# EAGLE library part AS3930 (library chips)
Single Channel Low Frequency Wakeup Receiver
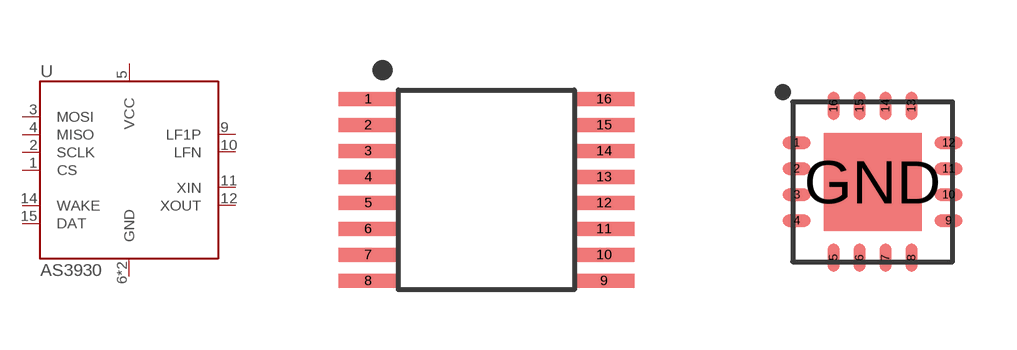
[diagram p33: symbol with the pads of TSSOP-16/5MM; footprints TSSOP-16/5MM, QFN-16-4MM]

Designator prefix U

## AS3930-BTST  [TSSOP-16/5MM]
1  CS
2  SCLK
3  MOSI
4  MISO
5  VCC
6  GND
9  LF1P
10  LFN
11  XIN
12  XOUT
13  GND
14  WAKE
15  DAT

## AS3930-BQFT (DIGIKEY: AS3930-BQFTCT-ND)  [QFN-16-4MM]
3  LF1P
4  LFN
5  XIN
6  XOUT
7  GND
8  WAKE
9  DAT
11  CS
12  SCLK
13  MOSI
14  MISO
15  VCC
16  GND
GND  GND

## Footprint TSSOP-16/5MM (pad centres in mm)
smd 1.5 x 0.35: 1 -2.95,2.275; 2 -2.95,1.625; 3 -2.95,0.975; 4 -2.95,0.325; 5 -2.95,-0.325; 6 -2.95,-0.975; 7 -2.95,-1.625; 8 -2.95,-2.275; 9 2.95,-2.275; 10 2.95,-1.625; 11 2.95,-0.975; 12 2.95,-0.325; 13 2.95,0.325; 14 2.95,0.975; 15 2.95,1.625; 16 2.95,2.275

## Footprint QFN-16-4MM (pad centres in mm)
smd 0.7 x 0.3: 1 -1.9,0.975; 2 -1.9,0.325; 3 -1.9,-0.325; 4 -1.9,-0.975; 9 1.9,-0.975; 10 1.9,-0.325; 11 1.9,0.325; 12 1.9,0.975
smd 0.3 x 0.7: 5 -0.975,-1.9; 6 -0.325,-1.9; 7 0.325,-1.9; 8 0.975,-1.9; 13 0.975,1.9; 14 0.325,1.9; 15 -0.325,1.9; 16 -0.975,1.9
smd 2.45 x 2.45: GND 0,0